# EAGLE library part LTC1540 (library BQ25504)
LTC Nanopower Comparator with Bandgap reference
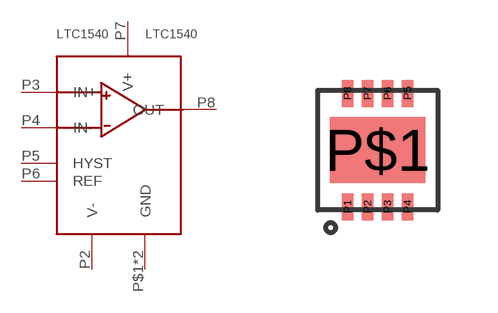
[diagram p31: symbol with the pads of DFN-8; footprint DFN-8]

Designator prefix -

## LTC1540 (DIGIKEY: LTC1540CDD#PBF-ND)  [DFN-8]
P1  GND
P2  V-
P3  IN+
P4  IN-
P5  HYST
P6  REF
P7  V+
P8  OUT
P$1  GND

## Footprint DFN-8 (pad centres in mm)
smd 0.28 x 0.675: P1 -0.75,-1.42; P2 -0.25,-1.42; P3 0.25,-1.42; P4 0.75,-1.42; P5 0.75,1.42; P6 0.25,1.42; P7 -0.25,1.42; P8 -0.75,1.42
smd 2.38 x 1.65: P$1 0,0